# Altium footprint library Quatro_PcbLib.PcbLib: 46 footprints (part 1 of 3)
Each footprint in its own frame and in the unit in brackets; x right, y up, seen from the top. Pads: shape width x height; smd on the part's side, far side on the other; paste and mask are expansions set on the pad; w line width, h text height; cw(c..) or ccw(c..) is an arc to the next point about the centre after c.
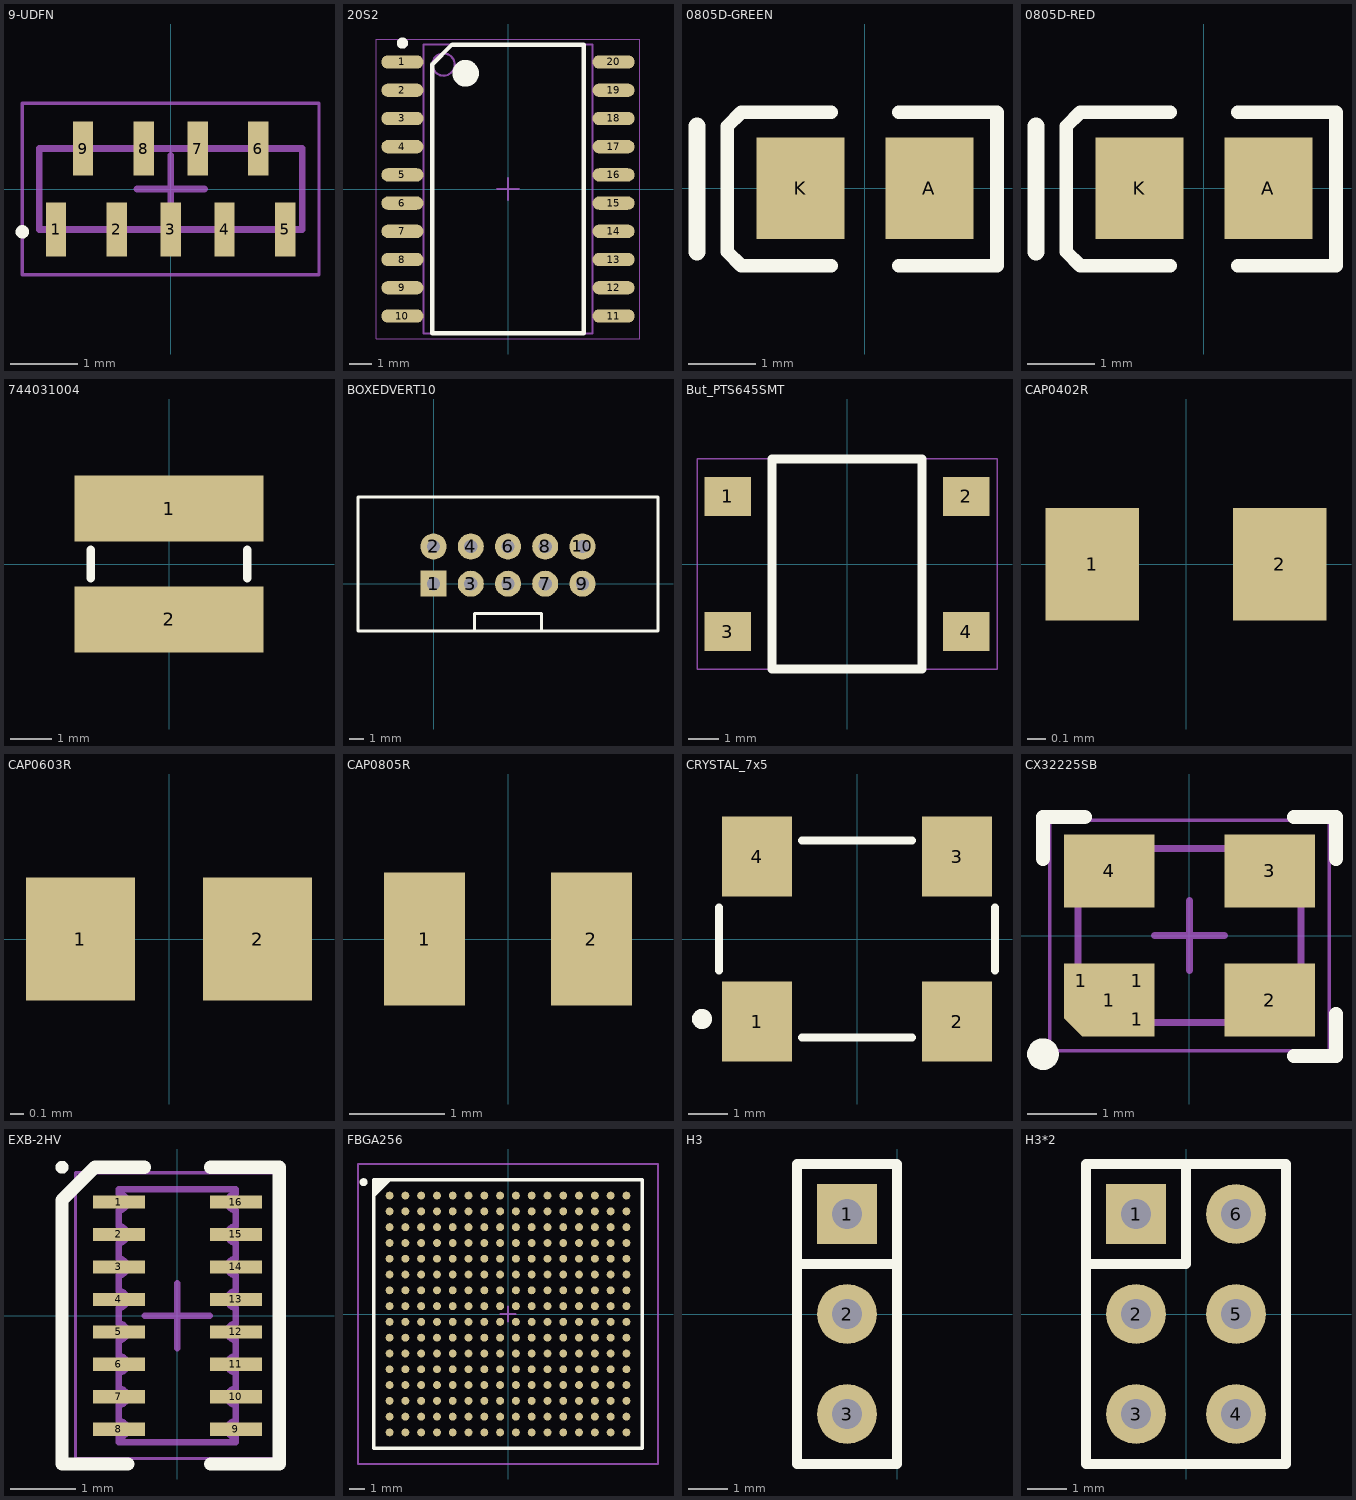
[diagram p0: the footprints below, top view; thin cyan lines are the x and y axes]

## 9-UDFN [mm] "Chip Array, Flat, 9-Leads, Pitch 0.80mm,  Body 3.80x1.00mm,  IPC Medium Density"
height 0.55
pads (9):
  rect 0.3x0.8 smd: 1(-1.7,-0.6) 2(-0.8,-0.6) 3(0,-0.6) 4(0.8,-0.6) 5(1.7,-0.6) 6(1.3,0.6) 7(0.4,0.6) 8(-0.4,0.6) 9(-1.3,0.6)
Top Overlay:
  circle w0.1: c-2.2,-0.635 r0.05
Mechanical 13:
  lines w0.1: -1.95,-0.6 1.95,-0.6 1.95,0.6 -1.95,0.6 -1.95,-0.6
Mechanical 15:
  lines w0.05: -2.2,-1.27 2.2,-1.27 2.2,1.27 -2.2,1.27 -2.2,-1.27
  lines w0.1: -0.5,0 0.5,0 ; 0,-0.5 0,0.5
3D body: height 0.55, standoff 0, extent -1.95,-0.55 1.95,0.55

## 20S2 [mm] "ATTINY 2313"
height 2.65
pads (20):
  oval 1.9x0.6 smd: 1(-4.75,5.715) 2(-4.75,4.445) 3(-4.75,3.175) 4(-4.75,1.905) 5(-4.75,0.635) 6(-4.75,-0.635) 7(-4.75,-1.905) 8(-4.75,-3.175) 9(-4.75,-4.445) 10(-4.75,-5.715) 11(4.75,-5.715) 12(4.75,-4.445) 13(4.75,-3.175) 14(4.75,-1.905) 15(4.75,-0.635) 16(4.75,0.635) 17(4.75,1.905) 18(4.75,3.175) 19(4.75,4.445) 20(4.75,5.715)
Top Overlay:
  circle w0.25: c-4.75,6.565 r0.125
  circle w0.6: c-1.905,5.207 r0.3
  lines w0.2: -3.4,-6.5 3.4,-6.5 3.4,6.5 -2.517,6.5 -3.4,5.617 -3.4,-6.5
Mechanical 13:
  circle w0.1: c-2.9,5.6 r0.5
  lines w0.1: -3.8,-6.5 -3.8,6.5 3.8,6.5 3.8,-6.5 -3.8,-6.5
Mechanical 15:
  lines w0.05: -5.925,-6.75 -5.925,6.75 5.925,6.75 5.925,-6.75 -5.925,-6.75
  lines w0.1: -0.5,0 0.5,0 ; 0,-0.5 0,0.5
3D body "20S2.step": height 2.65, standoff 0, extent -5.162,-6.5 5.162,6.5

## 0805D-GREEN [mm] "0805 Diode"
height 1
pads (2):
  rect 1.3x1.5 smd: A(0.95,0) K(-0.95,0)
Top Overlay:
  lines w0.2: -0.5,-1.143 -1.829,-1.143 -2.032,-0.94 -2.032,0.914 -1.829,1.118 -0.5,1.118 ; 0.5,-1.143 1.95,-1.143 1.95,1.118 0.5,1.118
  lines w0.254: -2.48,-0.94 -2.48,0.914
3D body "User Library-led_0805.step": height 1.1, standoff 0, extent -1.01,-0.625 1.01,0.625

## 0805D-RED [mm] "0805 Diode RED"
height 1
pads (2):
  rect 1.3x1.5 smd: A(0.95,0) K(-0.95,0)
Top Overlay:
  lines w0.2: -0.5,-1.143 -1.829,-1.143 -2.032,-0.94 -2.032,0.914 -1.829,1.118 -0.5,1.118 ; 0.5,-1.143 1.95,-1.143 1.95,1.118 0.5,1.118
  lines w0.254: -2.48,-0.94 -2.48,0.914
3D body "LED-0805-RED.STEP": height 0.9, standoff -0.01, extent -1.05,-0.675 1.05,0.675

## 744031004 [mm] "Wurth Inductor"
height 1.65
pads (2):
  rect 4.6x1.6 smd: 1(0,1.35) 2(0,-1.35)
Top Overlay:
  lines w0.203: -1.9,-0.35 -1.9,0.35 ; 1.9,-0.35 1.9,0.35
3D body "STEP-WE-TPC-3816-rev1.stp": height 1.65, standoff 0, extent -1.9,-1.9 1.9,1.9

## BOXEDVERT10 [mil] "IDC Header 2.54mm Boxed 10 pins"
height 346.46
pads (10):
  rect 70x70 hole 35.43: 1(0,0)
  round 70 hole 35.43: 2(0,100) 3(100,0) 4(100,100) 5(200,0) 6(200,100) 7(300,0) 8(300,100) 9(400,0) 10(400,100)
Top Overlay:
  lines w7.87: 110,-123.31 110,-80 290,-80 290,-123.31 ; -203,-126.5 -203,232.41 603,232.41 603,-126.5 -203,-126.5
3D body "User Library-BH-10__64 (3).step": height 358.87, standoff -117.51, extent -203.54,-129.13 603.55,237.01

## But_PTS645SMT [mm]
pads (4):
  rect 1.55x1.3 smd: 1(-3.975,2.25) 2(3.975,2.25) 3(-3.975,-2.25) 4(3.975,-2.25)
Top Overlay:
  lines w0.3: -2.5,-3.5 2.5,-3.5 2.5,3.5 -2.5,3.5 -2.5,-3.5
Mechanical 15:
  lines w0.05: -5,-3.5 -5,3.5 5,3.5 5,-3.5 -5,-3.5
3D body: height 4.3, standoff 0, extent -1.75,-1.75 1.75,1.75
3D body: height 3.45, standoff 0, extent -3,-3 3,3
3D body: height 0.25, standoff 0, extent -3,3.5 -3,3.5
3D body: height 0.3, standoff 0, extent 3,1.9 4.5,2.6
3D body: height 0.3, standoff 0, extent -4.5,-2.6 -3,-1.9
3D body: height 0.3, standoff 0, extent -4.5,1.9 -3,2.6
3D body: height 0.3, standoff 0, extent 3,-2.6 4.5,-1.9

## CAP0402R [mm] "Capacitor 0402 reflow soldering"
pads (2):
  rect 0.5x0.6 smd: 1(-0.5,0) 2(0.5,0)
3D body "CAP0402.stp": height 0.2, standoff 0, extent -0.5,-0.3 0.5,0.3

## CAP0603R [mm] "capacitor 0603 reflow soldering"
pads (2):
  rect 0.8x0.9 smd: 1(-0.65,0) 2(0.65,0)
3D body "CAP0603.stp": height 0.3, standoff 0, extent -0.8,-0.4 0.8,0.4

## CAP0805R [mm] "capacitor 0805 reflow soldering"
pads (2):
  rect 0.85x1.4 smd: 1(-0.875,0) 2(0.875,0)
3D body "CAP0805.stp": height 0.78, standoff 0, extent -1,-0.625 1,0.625

## CRYSTAL_7x5 [mil]
height 70.87
pads (4):
  rect 70x80 smd: 1(-100,-82.5) 2(100,-82.5) 3(100,82.5) 4(-100,82.5)
Top Overlay:
  circle w10: c-155,-80 r5
  lines w8: -137.8,-31.5 -137.8,31.5 ; -55.12,-98.43 55.12,-98.43 ; -55.12,98.43 55.12,98.43 ; 137.8,-31.5 137.8,31.5
3D body "ASV.STEP": height 71.43, standoff 0.57, extent -137.79,-100 137.8,100

## CX32225SB [mm] "KYCERA 12MhZ Crystal CX32225SB"
height 0.89
pads (7):
  rect 0.5x0.5 smd: 1(-1.55,-0.65) 1(-0.75,-1.2) 1(-0.75,-0.65)
  oct 1.3x1.05 smd: 1(-1.15,-0.925)
  rect 1.3x1.05 smd: 2(1.15,-0.925) 3(1.15,0.925) 4(-1.15,0.925)
Top Overlay:
  circle w0.254: c-2.1,-1.7 r0.1
  lines w0.203: -2.1,1.1 -2.1,1.7 -1.5,1.7 ; 1.5,-1.725 2.1,-1.725 2.1,-1.125 ; 1.5,1.7 2.1,1.7 2.1,1.1
Mechanical 13:
  lines w0.1: -1.6,-1.25 1.6,-1.25 1.6,1.25 -1.6,1.25 -1.6,-1.25
Mechanical 15:
  lines w0.05: -2,-1.65 2,-1.65 2,1.65 -2,1.65 -2,-1.65
  lines w0.1: -0.5,0 0.5,0 ; 0,-0.5 0,0.5
3D body: height 0.55, standoff 0.02, extent -1.6,-1.25 1.6,1.25

## EXB-2HV [mm] "Panasonic 8 Res Convex SMD 1506"
height 0.55
pads (16):
  rect 0.8x0.203 smd: 1(-0.9,1.75) 2(-0.9,1.25) 3(-0.9,0.75) 4(-0.9,0.25) 5(-0.9,-0.25) 6(-0.9,-0.75) 7(-0.9,-1.25) 8(-0.9,-1.75) 9(0.9,-1.75) 10(0.9,-1.25) 11(0.9,-0.75) 12(0.9,-0.25) 13(0.9,0.25) 14(0.9,0.75) 15(0.9,1.25) 16(0.9,1.75)
Top Overlay:
  circle w0.1: c-1.778,2.286 r0.05
  lines w0.203: -0.762,-2.286 -1.778,-2.286 -1.778,1.778 -1.27,2.286 -0.508,2.286 ; 0.508,-2.286 1.57,-2.286 1.57,2.286 0.508,2.286
Mechanical 13:
  lines w0.1: -0.9,-1.95 -0.9,-1.875 ccw(c-0.9,-1.75) -0.9,-1.625 -0.9,-1.375 ccw(c-0.9,-1.25) -0.9,-1.125 -0.9,-0.875 ccw(c-0.9,-0.75) -0.9,-0.625 -0.9,-0.375 ccw(c-0.9,-0.25) -0.9,-0.125 -0.9,0.125 ccw(c-0.9,0.25) -0.9,0.375 -0.9,0.625 ccw(c-0.9,0.75) -0.9,0.875 -0.9,1.125 ccw(c-0.9,1.25) -0.9,1.375 -0.9,1.625 ccw(c-0.9,1.75) -0.9,1.875 -0.9,1.95 0.9,1.95 0.9,1.875 ccw(c0.9,1.75) 0.9,1.625 0.9,1.375 ccw(c0.9,1.25) 0.9,1.125 0.9,0.875 ccw(c0.9,0.75) 0.9,0.625 0.9,0.375 ccw(c0.9,0.25) 0.9,0.125 0.9,-0.125 ccw(c0.9,-0.25) 0.9,-0.375 0.9,-0.625 ccw(c0.9,-0.75) 0.9,-0.875 0.9,-1.125 ccw(c0.9,-1.25) 0.9,-1.375 0.9,-1.625 ccw(c0.9,-1.75) 0.9,-1.875 0.9,-1.95 -0.9,-1.95
Mechanical 15:
  lines w0.05: -1.57,-2.2 -1.57,2.2 1.57,2.2 1.57,-2.2 -1.57,-2.2
  lines w0.1: -0.5,0 0.5,0 ; 0,-0.5 0,0.5
3D body "CAF-80P160X100-8N.step": height 0.55, standoff 0, extent -0.9,-1.95 0.9,1.95

## FBGA256 [mm] "BGA, 256-Leads, Body 17x17mm, Pitch 1mm"
height 2.2
pads (256):
  round 0.5 smd: A1(-7.5,7.5) A2(-6.5,7.5) A3(-5.5,7.5) A4(-4.5,7.5) A5(-3.5,7.5) A6(-2.5,7.5) A7(-1.5,7.5) A8(-0.5,7.5) A9(0.5,7.5) A10(1.5,7.5) A11(2.5,7.5) A12(3.5,7.5) A13(4.5,7.5) A14(5.5,7.5) A15(6.5,7.5) A16(7.5,7.5) B1(-7.5,6.5) B2(-6.5,6.5) B3(-5.5,6.5) B4(-4.5,6.5) B5(-3.5,6.5) B6(-2.5,6.5) B7(-1.5,6.5) B8(-0.5,6.5) B9(0.5,6.5) B10(1.5,6.5) B11(2.5,6.5) B12(3.5,6.5) B13(4.5,6.5) B14(5.5,6.5) B15(6.5,6.5) B16(7.5,6.5) C1(-7.5,5.5) C2(-6.5,5.5) C3(-5.5,5.5) C4(-4.5,5.5) C5(-3.5,5.5) C6(-2.5,5.5) C7(-1.5,5.5) C8(-0.5,5.5) C9(0.5,5.5) C10(1.5,5.5) C11(2.5,5.5) C12(3.5,5.5) C13(4.5,5.5) C14(5.5,5.5) C15(6.5,5.5) C16(7.5,5.5) D1(-7.5,4.5) D2(-6.5,4.5) D3(-5.5,4.5) D4(-4.5,4.5) D5(-3.5,4.5) D6(-2.5,4.5) D7(-1.5,4.5) D8(-0.5,4.5) D9(0.5,4.5) D10(1.5,4.5) D11(2.5,4.5) D12(3.5,4.5) D13(4.5,4.5) D14(5.5,4.5) D15(6.5,4.5) D16(7.5,4.5) E1(-7.5,3.5) E2(-6.5,3.5) E3(-5.5,3.5) E4(-4.5,3.5) E5(-3.5,3.5) E6(-2.5,3.5) E7(-1.5,3.5) E8(-0.5,3.5) E9(0.5,3.5) E10(1.5,3.5) E11(2.5,3.5) E12(3.5,3.5) E13(4.5,3.5) E14(5.5,3.5) E15(6.5,3.5) E16(7.5,3.5) F1(-7.5,2.5) F2(-6.5,2.5) F3(-5.5,2.5) F4(-4.5,2.5) F5(-3.5,2.5) F6(-2.5,2.5) F7(-1.5,2.5) F8(-0.5,2.5) F9(0.5,2.5) F10(1.5,2.5) F11(2.5,2.5) F12(3.5,2.5) F13(4.5,2.5) F14(5.5,2.5) F15(6.5,2.5) F16(7.5,2.5) G1(-7.5,1.5) G2(-6.5,1.5) G3(-5.5,1.5) G4(-4.5,1.5) G5(-3.5,1.5) G6(-2.5,1.5) G7(-1.5,1.5) G8(-0.5,1.5) G9(0.5,1.5) G10(1.5,1.5) G11(2.5,1.5) G12(3.5,1.5) G13(4.5,1.5) G14(5.5,1.5) G15(6.5,1.5) G16(7.5,1.5) H1(-7.5,0.5) H2(-6.5,0.5) H3(-5.5,0.5) H4(-4.5,0.5) H5(-3.5,0.5) H6(-2.5,0.5) H7(-1.5,0.5) H8(-0.5,0.5) H9(0.5,0.5) H10(1.5,0.5) H11(2.5,0.5) H12(3.5,0.5) H13(4.5,0.5) H14(5.5,0.5) H15(6.5,0.5) H16(7.5,0.5) J1(-7.5,-0.5) J2(-6.5,-0.5) J3(-5.5,-0.5) J4(-4.5,-0.5) J5(-3.5,-0.5) J6(-2.5,-0.5) J7(-1.5,-0.5) J8(-0.5,-0.5) J9(0.5,-0.5) J10(1.5,-0.5) J11(2.5,-0.5) J12(3.5,-0.5) J13(4.5,-0.5) J14(5.5,-0.5) J15(6.5,-0.5) J16(7.5,-0.5) K1(-7.5,-1.5) K2(-6.5,-1.5) K3(-5.5,-1.5) K4(-4.5,-1.5) K5(-3.5,-1.5) K6(-2.5,-1.5) K7(-1.5,-1.5) K8(-0.5,-1.5) K9(0.5,-1.5) K10(1.5,-1.5) K11(2.5,-1.5) K12(3.5,-1.5) K13(4.5,-1.5) K14(5.5,-1.5) K15(6.5,-1.5) K16(7.5,-1.5) L1(-7.5,-2.5) L2(-6.5,-2.5) L3(-5.5,-2.5) L4(-4.5,-2.5) L5(-3.5,-2.5) L6(-2.5,-2.5) L7(-1.5,-2.5) L8(-0.5,-2.5) L9(0.5,-2.5) L10(1.5,-2.5) L11(2.5,-2.5) L12(3.5,-2.5) L13(4.5,-2.5) L14(5.5,-2.5) L15(6.5,-2.5) L16(7.5,-2.5) M1(-7.5,-3.5) M2(-6.5,-3.5) M3(-5.5,-3.5) M4(-4.5,-3.5) M5(-3.5,-3.5) M6(-2.5,-3.5) M7(-1.5,-3.5) M8(-0.5,-3.5) M9(0.5,-3.5) M10(1.5,-3.5) M11(2.5,-3.5) M12(3.5,-3.5) M13(4.5,-3.5) M14(5.5,-3.5) M15(6.5,-3.5) M16(7.5,-3.5) N1(-7.5,-4.5) N2(-6.5,-4.5) N3(-5.5,-4.5) N4(-4.5,-4.5) N5(-3.5,-4.5) N6(-2.5,-4.5) N7(-1.5,-4.5) N8(-0.5,-4.5) N9(0.5,-4.5) N10(1.5,-4.5) N11(2.5,-4.5) N12(3.5,-4.5) N13(4.5,-4.5) N14(5.5,-4.5) N15(6.5,-4.5) N16(7.5,-4.5) P1(-7.5,-5.5) P2(-6.5,-5.5) P3(-5.5,-5.5) P4(-4.5,-5.5) P5(-3.5,-5.5) P6(-2.5,-5.5) P7(-1.5,-5.5) P8(-0.5,-5.5) P9(0.5,-5.5) P10(1.5,-5.5) P11(2.5,-5.5) P12(3.5,-5.5) P13(4.5,-5.5) P14(5.5,-5.5) P15(6.5,-5.5) P16(7.5,-5.5) R1(-7.5,-6.5) R2(-6.5,-6.5) R3(-5.5,-6.5) R4(-4.5,-6.5) R5(-3.5,-6.5) R6(-2.5,-6.5) R7(-1.5,-6.5) R8(-0.5,-6.5) R9(0.5,-6.5) R10(1.5,-6.5) R11(2.5,-6.5) R12(3.5,-6.5) R13(4.5,-6.5) R14(5.5,-6.5) R15(6.5,-6.5) R16(7.5,-6.5) T1(-7.5,-7.5) T2(-6.5,-7.5) T3(-5.5,-7.5) T4(-4.5,-7.5) T5(-3.5,-7.5) T6(-2.5,-7.5) T7(-1.5,-7.5) T8(-0.5,-7.5) T9(0.5,-7.5) T10(1.5,-7.5) T11(2.5,-7.5) T12(3.5,-7.5) T13(4.5,-7.5) T14(5.5,-7.5) T15(6.5,-7.5) T16(7.5,-7.5)
Top Overlay:
  circle w0.25: c-9.15,8.35 r0.125
  region: -7.5,8.5 -8.5,7.5 -8.5,8.5
  lines w0.2: -8.5,7.5 -7.5,8.5 ; -8.5,-8.5 -8.5,8.5 8.5,8.5 8.5,-8.5 -8.5,-8.5
Mechanical 13:
  lines w0.1: -8.5,-8.5 -8.5,8.5 8.5,8.5 8.5,-8.5 -8.5,-8.5
Mechanical 15:
  lines w0.1: -0.5,0 0.5,0 ; 0,-0.5 0,0.5 ; -9.5,-9.5 -9.5,9.5 9.5,9.5 9.5,-9.5 -9.5,-9.5
3D body "BGA256C100P16X16_1700X1700X145.step": height 1.45, standoff 0, extent -8.5,-8.5 8.5,8.5

## H3 [mil] "Headers 0.1mil pitch"
pads (3):
  rect 60x60 hole 30: 1(-50,100)
  round 60 hole 30: 2(-50,0) 3(-50,-100)
Top Overlay:
  lines w10: -100,50 0,50 ; -100,-150 -100,150 0,150 0,-150 -100,-150
3D body: height 98.43, standoff 0, extent -100,50 0.01,150
3D body: height 334.65, standoff -118.11, extent -62.69,87.23 -37.2,112.77
3D body: height 98.43, standoff 0, extent -100,-150 0.01,-50
3D body: height 334.65, standoff -118.11, extent -62.69,-112.77 -37.2,-87.23
3D body: height 98.43, standoff 0, extent -100,-50 0.01,50
3D body: height 334.65, standoff -118.11, extent -62.69,-12.77 -37.2,12.77

## H3*2 [mil] "Headers 0.1mil pitch"
pads (6):
  rect 60x60 hole 30: 1(-50,100)
  round 60 hole 30: 2(-50,0) 3(-50,-100) 4(50,-100) 5(50,0) 6(50,100)
Top Overlay:
  lines w10: -100,50 0,50 0,150 ; -100,-150 100,-150 100,150 -100,150 -100,-150
3D body: height 334.65, standoff -118.11, extent -62.69,-12.77 -37.2,12.77
3D body: height 98.43, standoff 0, extent -100,-50 0.01,50
3D body: height 334.65, standoff -118.11, extent -62.69,-112.77 -37.2,-87.23
3D body: height 98.43, standoff 0, extent -100,-150 0.01,-50
3D body: height 334.65, standoff -118.11, extent 37.31,-112.77 62.8,-87.23
3D body: height 98.43, standoff 0, extent 0,-150 100.01,-50
3D body: height 334.65, standoff -118.11, extent 37.31,-12.77 62.8,12.77
3D body: height 98.43, standoff 0, extent 0,-50 100.01,50
3D body: height 334.65, standoff -118.11, extent 37.31,87.23 62.8,112.77
3D body: height 98.43, standoff 0, extent 0,50 100.01,150
3D body: height 334.65, standoff -118.11, extent -62.69,87.23 -37.2,112.77
3D body: height 98.43, standoff 0, extent -100,50 0.01,150